# EAGLE library part 3M-214-3339 (library C3-Connector)
3M TEXTOOL 0.100" ZIF PDIP-14 Socket
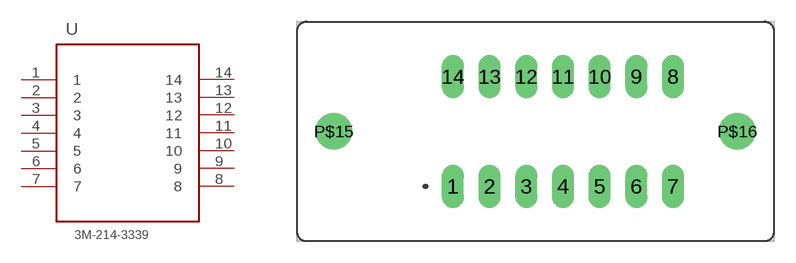
[diagram p20: symbol with the pads of 3M_214_3339; footprint 3M_214_3339]

Designator prefix U

## 3M-214-3339  [3M_214_3339]
1  1
2  2
3  3
4  4
5  5
6  6
7  7
8  8
9  9
10  10
11  11
12  12
13  13
14  14

## Footprint 3M_214_3339 (pad centres in mm)
drill 1 long: 1 -5.715,-3.81; 2 -3.175,-3.81; 3 -0.635,-3.81; 4 1.905,-3.81; 5 4.445,-3.81; 6 6.985,-3.81; 7 9.525,-3.81; 8 9.525,3.81; 9 6.985,3.81; 10 4.445,3.81; 11 1.905,3.81; 12 -0.635,3.81; 13 -3.175,3.81; 14 -5.715,3.81
drill 1.6 pad 2.54: P$15 -13.97,0; P$16 13.97,0